# EAGLE library part LTC1624 (library omcPwrSupply)
LTC1624 - 200mA Buck-Boost Synchronous DC/DC Converters N-Channel MOSFET Drive Implements Boost, Step-Down, SEPIC and Inverting Regulators Wide VIN Range: 3.5V to 36V Operation Wide VOUT Range: 1.19V to 30V in Step-Down Configuration ±1% 1.19V Reference Low Dropout Operation: 95% Duty Cycle 200kHz Fixed Frequency Low Standby Current Very High Efficiency Remote Output Voltage Sense Logic-Controlled Micropower Shutdown LInternal Diode for Bootstrapped Gate Drive Current Mode Operation for Excellent Line and Load Transient Response Linear Technolgy Datasheet <http://cds.linear.com/docs/en/datasheet/1624f.pdf> Reichelt Datasheet <http://cdn-reichelt.de/documents/datenblatt/A200/LTC1624-DB.pdf>
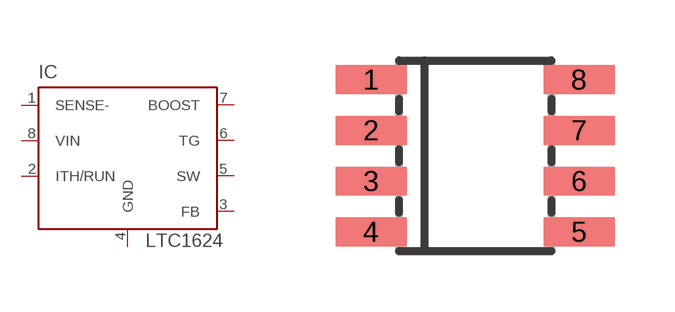
[diagram p0: symbol with the pads of SOIC08; footprint SOIC08]

Designator prefix IC

## LTC1624 (DIST#CONRAD#: 157668 - 62; DIST#DIGIKEY#: LTC1624CS8#PBF-ND; DIST#REICHELT#: LTC 1624 CS8; VALUE: LTC1624; VENDOR#: Linear Technology,LTC1624CS)  [SOIC08]
1  SENSE-  pas
2  ITH/RUN  pas
3  FB  pas
4  GND  pwr
5  SW  pas
6  TG  pas
7  BOOST  pas
8  VIN  pas

## Footprint SOIC08 (pad centres in mm)
SOIC08 SOIC-8 SMD 5mm×6.2mm Wikipedia <https://en.wikipedia.org/wiki/Small_Outline_Integrated_Circuit>
smd 1.78 x 0.72: 1 -2.6,1.905; 2 -2.6,0.635; 3 -2.6,-0.635; 4 -2.6,-1.905; 5 2.6,-1.905; 6 2.6,-0.635; 7 2.6,0.635; 8 2.6,1.905